# EAGLE library part SX1261 (library df4iah_rf)
Semtech SX1261/2 Long Range, Low Power, sub-GHz RF Transceiver FRF = 434/490/868/915 MHz FXOSC = 32 MHz Synthesizer frequency range: 150 - 960 MHz Synthesizer frequency step: 0.95 Hz
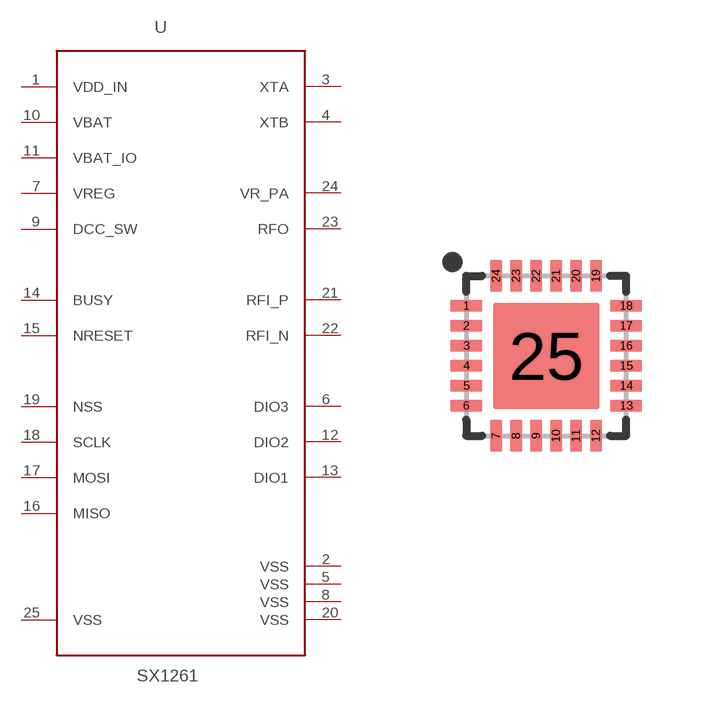
[diagram p4: symbol with the pads of QFN24-4X4-0P5-PAD; footprint QFN24-4X4-0P5-PAD]

Designator prefix U

## SX1261  [QFN24-4X4-0P5-PAD]
1  VDD_IN  pwr
2  VSS  pas
3  XTA  pas
4  XTB  pas
5  VSS  pas
6  DIO3
7  VREG  sup
8  VSS  pas
9  DCC_SW  pas
10  VBAT  pwr
11  VBAT_IO  pwr
12  DIO2
13  DIO1
14  BUSY
15  NRESET
16  MISO  out
17  MOSI  in
18  SCLK  in
19  NSS  in
20  VSS  pas
21  RFI_P  pas
22  RFI_N  pas
23  RFO  pas
24  VR_PA  sup
25  VSS  pas

## Footprint QFN24-4X4-0P5-PAD (pad centres in mm)
24-Pin QFN - 4.0 x 4.0 mm - 0.5P - with center pad
smd 0.8 x 0.3: 1 -2,1.25; 2 -2,0.75; 3 -2,0.25; 4 -2,-0.25; 5 -2,-0.75; 6 -2,-1.25; 13 2,-1.25; 14 2,-0.75; 15 2,-0.25; 16 2,0.25; 17 2,0.75; 18 2,1.25
smd 0.3 x 0.8: 7 -1.25,-2; 8 -0.75,-2; 9 -0.25,-2; 10 0.25,-2; 11 0.75,-2; 12 1.25,-2; 19 1.25,2; 20 0.75,2; 21 0.25,2; 22 -0.25,2; 23 -0.75,2; 24 -1.25,2
smd 2.65 x 2.65: 25 0,0